# Altium schematic symbol library Components - 29.04.22 - 09.29.SchLib: 1 symbol
Pins are listed as number, name and electrical type; pins without a type are passive.

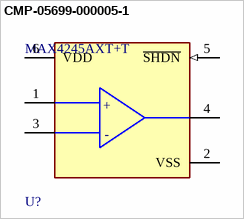
[diagram p0: symbol CMP-05699-000005-1]

## CMP-05699-000005-1
designator U?, comment MAX4245AXT+T
IC OPAMP GP 1 CIRCUIT SC70-6; Slew Rate: 0.4V/µs; Operating Supply Voltage: 2.75V; Gain Bandwidth Product: 1MHz; Output Current per Channel: 30mA; Nominal Supply Current: 320uA; Input Bias Current: 10nA; Common Mode Rejection Ratio: 65dB; Operating Supply Current: 375uA; Number of Circuits: 1; Min Supply Voltage: 2.5V; Min Dual Supply Voltage: 1.25V; Input Offset Voltage (Vos): 400uV; Voltage Gain: 120dB; Max Supply Voltage: 5.5V; Amplifier Type: GENERAL PURPOSE; Packaging: Tape and Reel; Length: 2.15mm; Series: -; Min Operating Temperature: -40°C; Max Dual Supply Voltage: 2.75V; Package Quantity: 1; Max Operating Temperature: 125°C; Height: 1mm; Number of Channels: 1; Radiation Hardening: No; Output Current: 30mA; Width: 1.35mm; Case/Package: SC; Number of Pins: 6; Supply Current: 320uA; Mount: Surface Mount
footprint FP-X6SN-1-MFG
footprint FP-X6SN-1-IPC_A
footprint FP-X6SN-1-IPC_C
footprint FP-X6SN-1-IPC_B
pins: 1 IN+ (hiz), 2 VSS (power), 3 IN- (hiz), 4 OUT, 5 ~{SHDN} (in), 6 VDD (power)
text: +